# Altium schematic symbol library lesson10.SchLib: 1 symbol
Pins are listed as number, name and electrical type; pins without a type are passive.

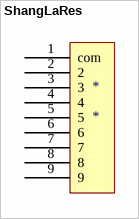
[diagram p0: symbol ShangLaRes]

## ShangLaRes
designator *
pins: 1 com, 2, 3, 4, 5, 6, 7, 8, 9